# Altium integrated library Linear Technology Power Management System Supervisor, Monitor and Control.IntLib: 1611 symbols (part 77 of 100)
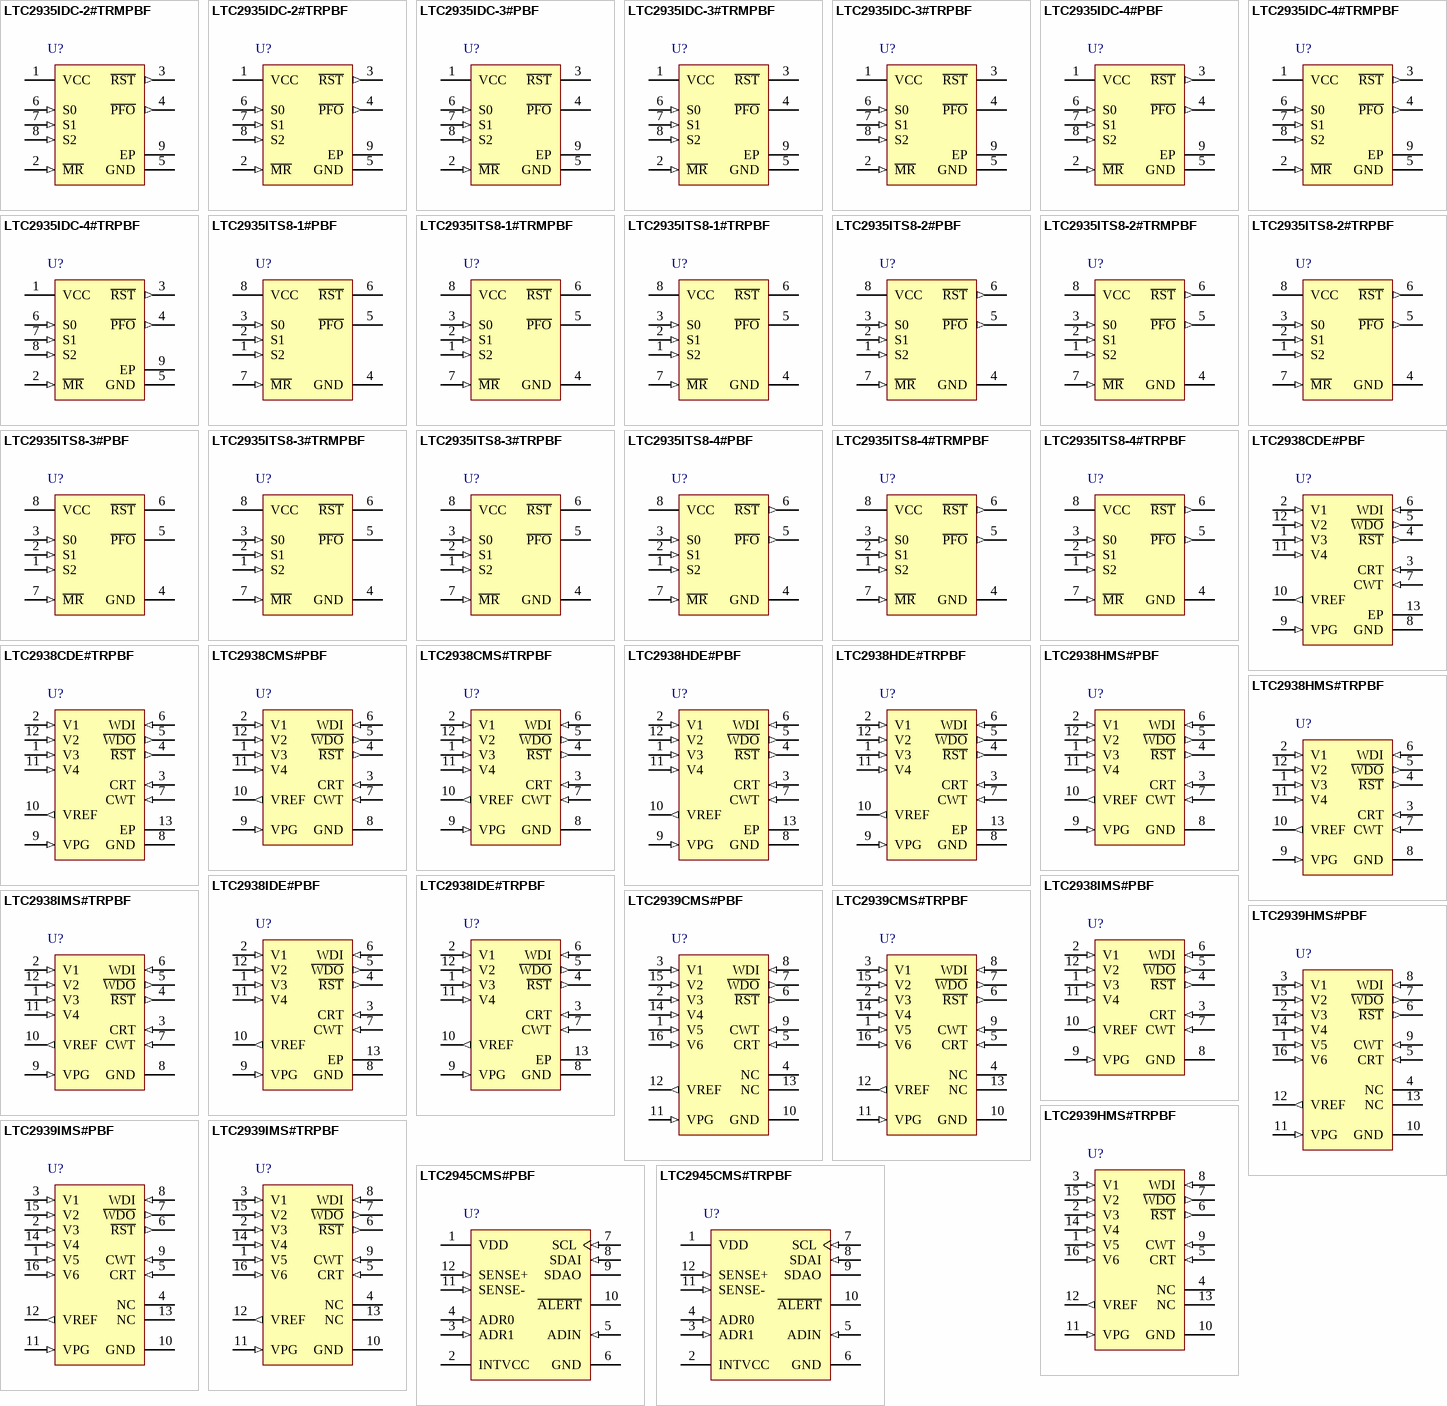
[diagram p121: symbols LTC2935IDC-2#TRMPBF to LTC2945CMS#TRPBF]

## LTC2935ITS8-1#PBF
designator U?
Ultra-Low Power Supervisor with Power-Fail Output, Selectable Threshold, 8-pin SOT23 (TS8-8), -40 to 85 degC, Pb-Free; Manufacturer: Linear Technology; PartNumber: LTC2935ITS8-1#PBF; Number of Supplies(#): 1; DatasheetVersion: Rev. A; PackageVersion: Rev. A, 08/2010; PackageReference: TS8-8; PackageDescription: 8-Pin Plastic TSOT-23, Body 2.9 x 1.63 mm, Pitch 0.65 mm; Supplier 1: Newark; Supplier Part Number 1: 78T3100; RoHS: TRUE; Mounting Technology: Surface Mount; Code_JEDEC: MO-193; ComponentLink1Description: Manufacturer URL; ComponentLink1URL: http://www.linear.com/; ComponentLink2Description: Datasheet; ComponentLink2URL: http://cds.linear.com/docs/en/datasheet/2935fa.pdf; ComponentLink3Description: Package Specification; ComponentLink3URL: http://cds.linear.com/docs/en/packaging/SOT_8_05-08-1637.pdf
footprint LT-TS8-8-TSOT-23_V (SOT23, 8-Leads, Body 2.9x1.75mm, Pitch 0.65mm)
pins: 1 S2 (in) "Threshold Selection Input. Tie to GND or VCC for required reset threshold. See the Falling Threshold Selection Table on page 1 for settings.", 2 S1 (in) "Threshold Selection Input. Tie to GND or VCC for required reset threshold. See the Falling Threshold Selection Table on page 1 for settings.", 3 S0 (in) "Threshold Selection Input. Tie to GND or VCC for required reset threshold. See the Falling Threshold Selection Table on page 1 for settings.", 4 GND (power) "Device ground.", 5 ~{PFO} (oc) "Power-Fail Output. P\F\O\ pulls low when VCC falls below the power-fail threshold. The power-fail threshold is above the configured falling reset threshold by a pre-determined margin. P\F\O\ is released when VCC rises above (See Datasheet)", 6 ~{RST} (oc) "Reset Output. R\S\T\ pulls low when VCC falls below the reset threshold. R\S\T\ is released 200ms after VCC exceeds the reset threshold plus 5% hysteresis. R\S\T\ is available with open-drain (LTC2935-1/LTC2935-3) or active (See Datasheet)", 7 ~{MR} (in) "Manual Reset Input. Attach a pushbutton switch between this input and ground. A logic low on this input pulls R\S\T\ low. When the M\R\ input returns to logic high, R\S\T\ returns high after 200ms. Tie to VCC if unused.", 8 VCC (power) "Power Supply and Monitored Voltage Input. Bypass VCC with a 0.1uF capacitor to GND."

## LTC2935ITS8-1#TRMPBF
designator U?
Ultra-Low Power Supervisor with Power-Fail Output, Selectable Threshold, 8-pin SOT23 (TS8-8), -40 to 85 degC, Pb-Free, Mini Tape and Reel; Manufacturer: Linear Technology; PartNumber: LTC2935ITS8-1#TRMPBF; Number of Supplies(#): 1; DatasheetVersion: Rev. A; PackageVersion: Rev. A, 08/2010; PackageReference: TS8-8; PackageDescription: 8-Pin Plastic TSOT-23, Body 2.9 x 1.63 mm, Pitch 0.65 mm; Supplier 1: Digi-Key; Supplier Part Number 1: LTC2935ITS8-1#TRMPBFTR-ND; Supplier 2: Digi-Key; Supplier Part Number 2: LTC2935ITS8-1#TRMPBFCT-ND; Supplier 3: Digi-Key; Supplier Part Number 3: LTC2935ITS8-1#TRMPBFDKR-ND; Supplier 4: Newark; Supplier Part Number 4: 15N3512; Packing: Mini Tape and Reel; RoHS: TRUE; Mounting Technology: Surface Mount; Code_JEDEC: MO-193; ComponentLink1Description: Manufacturer URL; ComponentLink1URL: http://www.linear.com/; ComponentLink2Description: Datasheet; ComponentLink2URL: http://cds.linear.com/docs/en/datasheet/2935fa.pdf; ComponentLink3Description: Package Specification; ComponentLink3URL: http://cds.linear.com/docs/en/packaging/SOT_8_05-08-1637.pdf
footprint LT-TS8-8-TSOT-23_V (SOT23, 8-Leads, Body 2.9x1.75mm, Pitch 0.65mm)
pins: 1 S2 (in) "Threshold Selection Input. Tie to GND or VCC for required reset threshold. See the Falling Threshold Selection Table on page 1 for settings.", 2 S1 (in) "Threshold Selection Input. Tie to GND or VCC for required reset threshold. See the Falling Threshold Selection Table on page 1 for settings.", 3 S0 (in) "Threshold Selection Input. Tie to GND or VCC for required reset threshold. See the Falling Threshold Selection Table on page 1 for settings.", 4 GND (power) "Device ground.", 5 ~{PFO} (oc) "Power-Fail Output. P\F\O\ pulls low when VCC falls below the power-fail threshold. The power-fail threshold is above the configured falling reset threshold by a pre-determined margin. P\F\O\ is released when VCC rises above (See Datasheet)", 6 ~{RST} (oc) "Reset Output. R\S\T\ pulls low when VCC falls below the reset threshold. R\S\T\ is released 200ms after VCC exceeds the reset threshold plus 5% hysteresis. R\S\T\ is available with open-drain (LTC2935-1/LTC2935-3) or active (See Datasheet)", 7 ~{MR} (in) "Manual Reset Input. Attach a pushbutton switch between this input and ground. A logic low on this input pulls R\S\T\ low. When the M\R\ input returns to logic high, R\S\T\ returns high after 200ms. Tie to VCC if unused.", 8 VCC (power) "Power Supply and Monitored Voltage Input. Bypass VCC with a 0.1uF capacitor to GND."

## LTC2935ITS8-1#TRPBF
designator U?
Ultra-Low Power Supervisor with Power-Fail Output, Selectable Threshold, 8-pin SOT23 (TS8-8), -40 to 85 degC, Pb-Free, Tape and Reel; Manufacturer: Linear Technology; PartNumber: LTC2935ITS8-1#TRPBF; Number of Supplies(#): 1; DatasheetVersion: Rev. A; PackageVersion: Rev. A, 08/2010; PackageReference: TS8-8; PackageDescription: 8-Pin Plastic TSOT-23, Body 2.9 x 1.63 mm, Pitch 0.65 mm; Supplier 1: Digi-Key; Supplier Part Number 1: LTC2935ITS8-1#TRPBF-ND; Packing: Tape and Reel; RoHS: TRUE; Mounting Technology: Surface Mount; Code_JEDEC: MO-193; ComponentLink1Description: Manufacturer URL; ComponentLink1URL: http://www.linear.com/; ComponentLink2Description: Datasheet; ComponentLink2URL: http://cds.linear.com/docs/en/datasheet/2935fa.pdf; ComponentLink3Description: Package Specification; ComponentLink3URL: http://cds.linear.com/docs/en/packaging/SOT_8_05-08-1637.pdf
footprint LT-TS8-8-TSOT-23_V (SOT23, 8-Leads, Body 2.9x1.75mm, Pitch 0.65mm)
pins: 1 S2 (in) "Threshold Selection Input. Tie to GND or VCC for required reset threshold. See the Falling Threshold Selection Table on page 1 for settings.", 2 S1 (in) "Threshold Selection Input. Tie to GND or VCC for required reset threshold. See the Falling Threshold Selection Table on page 1 for settings.", 3 S0 (in) "Threshold Selection Input. Tie to GND or VCC for required reset threshold. See the Falling Threshold Selection Table on page 1 for settings.", 4 GND (power) "Device ground.", 5 ~{PFO} (oc) "Power-Fail Output. P\F\O\ pulls low when VCC falls below the power-fail threshold. The power-fail threshold is above the configured falling reset threshold by a pre-determined margin. P\F\O\ is released when VCC rises above (See Datasheet)", 6 ~{RST} (oc) "Reset Output. R\S\T\ pulls low when VCC falls below the reset threshold. R\S\T\ is released 200ms after VCC exceeds the reset threshold plus 5% hysteresis. R\S\T\ is available with open-drain (LTC2935-1/LTC2935-3) or active (See Datasheet)", 7 ~{MR} (in) "Manual Reset Input. Attach a pushbutton switch between this input and ground. A logic low on this input pulls R\S\T\ low. When the M\R\ input returns to logic high, R\S\T\ returns high after 200ms. Tie to VCC if unused.", 8 VCC (power) "Power Supply and Monitored Voltage Input. Bypass VCC with a 0.1uF capacitor to GND."

## LTC2935ITS8-2#PBF
designator U?
Ultra-Low Power Supervisor with Power-Fail Output, Selectable Threshold, 8-pin SOT23 (TS8-8), -40 to 85 degC, Pb-Free; Manufacturer: Linear Technology; PartNumber: LTC2935ITS8-2#PBF; Number of Supplies(#): 1; DatasheetVersion: Rev. A; PackageVersion: Rev. A, 08/2010; PackageReference: TS8-8; PackageDescription: 8-Pin Plastic TSOT-23, Body 2.9 x 1.63 mm, Pitch 0.65 mm; Supplier 1: Farnell; Supplier Part Number 1: 2308123; Supplier 2: Newark; Supplier Part Number 2: 78T3101; RoHS: TRUE; Mounting Technology: Surface Mount; Code_JEDEC: MO-193; ComponentLink1Description: Manufacturer URL; ComponentLink1URL: http://www.linear.com/; ComponentLink2Description: Datasheet; ComponentLink2URL: http://cds.linear.com/docs/en/datasheet/2935fa.pdf; ComponentLink3Description: Package Specification; ComponentLink3URL: http://cds.linear.com/docs/en/packaging/SOT_8_05-08-1637.pdf
footprint LT-TS8-8-TSOT-23_V (SOT23, 8-Leads, Body 2.9x1.75mm, Pitch 0.65mm)
pins: 1 S2 (in) "Threshold Selection Input. Tie to GND or VCC for required reset threshold. See the Falling Threshold Selection Table on page 1 for settings.", 2 S1 (in) "Threshold Selection Input. Tie to GND or VCC for required reset threshold. See the Falling Threshold Selection Table on page 1 for settings.", 3 S0 (in) "Threshold Selection Input. Tie to GND or VCC for required reset threshold. See the Falling Threshold Selection Table on page 1 for settings.", 4 GND (power) "Device ground.", 5 ~{PFO} (out) "Power-Fail Output. P\F\O\ pulls low when VCC falls below the power-fail threshold. The power-fail threshold is above the configured falling reset threshold by a pre-determined margin. P\F\O\ is released when VCC rises above (See Datasheet)", 6 ~{RST} (out) "Reset Output. R\S\T\ pulls low when VCC falls below the reset threshold. R\S\T\ is released 200ms after VCC exceeds the reset threshold plus 5% hysteresis. R\S\T\ is available with open-drain (LTC2935-1/LTC2935-3) or active (See Datasheet)", 7 ~{MR} (in) "Manual Reset Input. Attach a pushbutton switch between this input and ground. A logic low on this input pulls R\S\T\ low. When the M\R\ input returns to logic high, R\S\T\ returns high after 200ms. Tie to VCC if unused.", 8 VCC (power) "Power Supply and Monitored Voltage Input. Bypass VCC with a 0.1uF capacitor to GND."

## LTC2935ITS8-2#TRMPBF
designator U?
Ultra-Low Power Supervisor with Power-Fail Output, Selectable Threshold, 8-pin SOT23 (TS8-8), -40 to 85 degC, Pb-Free, Mini Tape and Reel; Manufacturer: Linear Technology; PartNumber: LTC2935ITS8-2#TRMPBF; Number of Supplies(#): 1; DatasheetVersion: Rev. A; PackageVersion: Rev. A, 08/2010; PackageReference: TS8-8; PackageDescription: 8-Pin Plastic TSOT-23, Body 2.9 x 1.63 mm, Pitch 0.65 mm; Supplier 1: Digi-Key; Supplier Part Number 1: LTC2935ITS8-2#TRMPBFTR-ND; Supplier 2: Digi-Key; Supplier Part Number 2: LTC2935ITS8-2#TRMPBFCT-ND; Supplier 3: Digi-Key; Supplier Part Number 3: LTC2935ITS8-2#TRMPBFDKR-ND; Supplier 4: Newark; Supplier Part Number 4: 15N3514; Packing: Mini Tape and Reel; RoHS: TRUE; Mounting Technology: Surface Mount; Code_JEDEC: MO-193; ComponentLink1Description: Manufacturer URL; ComponentLink1URL: http://www.linear.com/; ComponentLink2Description: Datasheet; ComponentLink2URL: http://cds.linear.com/docs/en/datasheet/2935fa.pdf; ComponentLink3Description: Package Specification; ComponentLink3URL: http://cds.linear.com/docs/en/packaging/SOT_8_05-08-1637.pdf
footprint LT-TS8-8-TSOT-23_V (SOT23, 8-Leads, Body 2.9x1.75mm, Pitch 0.65mm)
pins: 1 S2 (in) "Threshold Selection Input. Tie to GND or VCC for required reset threshold. See the Falling Threshold Selection Table on page 1 for settings.", 2 S1 (in) "Threshold Selection Input. Tie to GND or VCC for required reset threshold. See the Falling Threshold Selection Table on page 1 for settings.", 3 S0 (in) "Threshold Selection Input. Tie to GND or VCC for required reset threshold. See the Falling Threshold Selection Table on page 1 for settings.", 4 GND (power) "Device ground.", 5 ~{PFO} (out) "Power-Fail Output. P\F\O\ pulls low when VCC falls below the power-fail threshold. The power-fail threshold is above the configured falling reset threshold by a pre-determined margin. P\F\O\ is released when VCC rises above (See Datasheet)", 6 ~{RST} (out) "Reset Output. R\S\T\ pulls low when VCC falls below the reset threshold. R\S\T\ is released 200ms after VCC exceeds the reset threshold plus 5% hysteresis. R\S\T\ is available with open-drain (LTC2935-1/LTC2935-3) or active (See Datasheet)", 7 ~{MR} (in) "Manual Reset Input. Attach a pushbutton switch between this input and ground. A logic low on this input pulls R\S\T\ low. When the M\R\ input returns to logic high, R\S\T\ returns high after 200ms. Tie to VCC if unused.", 8 VCC (power) "Power Supply and Monitored Voltage Input. Bypass VCC with a 0.1uF capacitor to GND."

## LTC2935ITS8-2#TRPBF
designator U?
Ultra-Low Power Supervisor with Power-Fail Output, Selectable Threshold, 8-pin SOT23 (TS8-8), -40 to 85 degC, Pb-Free, Tape and Reel; Manufacturer: Linear Technology; PartNumber: LTC2935ITS8-2#TRPBF; Number of Supplies(#): 1; DatasheetVersion: Rev. A; PackageVersion: Rev. A, 08/2010; PackageReference: TS8-8; PackageDescription: 8-Pin Plastic TSOT-23, Body 2.9 x 1.63 mm, Pitch 0.65 mm; Supplier 1: Digi-Key; Supplier Part Number 1: LTC2935ITS8-2#TRPBF-ND; Packing: Tape and Reel; RoHS: TRUE; Mounting Technology: Surface Mount; Code_JEDEC: MO-193; ComponentLink1Description: Manufacturer URL; ComponentLink1URL: http://www.linear.com/; ComponentLink2Description: Datasheet; ComponentLink2URL: http://cds.linear.com/docs/en/datasheet/2935fa.pdf; ComponentLink3Description: Package Specification; ComponentLink3URL: http://cds.linear.com/docs/en/packaging/SOT_8_05-08-1637.pdf
footprint LT-TS8-8-TSOT-23_V (SOT23, 8-Leads, Body 2.9x1.75mm, Pitch 0.65mm)
pins: 1 S2 (in) "Threshold Selection Input. Tie to GND or VCC for required reset threshold. See the Falling Threshold Selection Table on page 1 for settings.", 2 S1 (in) "Threshold Selection Input. Tie to GND or VCC for required reset threshold. See the Falling Threshold Selection Table on page 1 for settings.", 3 S0 (in) "Threshold Selection Input. Tie to GND or VCC for required reset threshold. See the Falling Threshold Selection Table on page 1 for settings.", 4 GND (power) "Device ground.", 5 ~{PFO} (out) "Power-Fail Output. P\F\O\ pulls low when VCC falls below the power-fail threshold. The power-fail threshold is above the configured falling reset threshold by a pre-determined margin. P\F\O\ is released when VCC rises above (See Datasheet)", 6 ~{RST} (out) "Reset Output. R\S\T\ pulls low when VCC falls below the reset threshold. R\S\T\ is released 200ms after VCC exceeds the reset threshold plus 5% hysteresis. R\S\T\ is available with open-drain (LTC2935-1/LTC2935-3) or active (See Datasheet)", 7 ~{MR} (in) "Manual Reset Input. Attach a pushbutton switch between this input and ground. A logic low on this input pulls R\S\T\ low. When the M\R\ input returns to logic high, R\S\T\ returns high after 200ms. Tie to VCC if unused.", 8 VCC (power) "Power Supply and Monitored Voltage Input. Bypass VCC with a 0.1uF capacitor to GND."

## LTC2935ITS8-3#PBF
designator U?
Ultra-Low Power Supervisor with Power-Fail Output, Selectable Threshold, 8-pin SOT23 (TS8-8), -40 to 85 degC, Pb-Free; Manufacturer: Linear Technology; PartNumber: LTC2935ITS8-3#PBF; Number of Supplies(#): 1; DatasheetVersion: Rev. A; PackageVersion: Rev. A, 08/2010; PackageReference: TS8-8; PackageDescription: 8-Pin Plastic TSOT-23, Body 2.9 x 1.63 mm, Pitch 0.65 mm; Supplier 1: Newark; Supplier Part Number 1: 24R8515; RoHS: TRUE; Mounting Technology: Surface Mount; Code_JEDEC: MO-193; ComponentLink1Description: Manufacturer URL; ComponentLink1URL: http://www.linear.com/; ComponentLink2Description: Datasheet; ComponentLink2URL: http://cds.linear.com/docs/en/datasheet/2935fa.pdf; ComponentLink3Description: Package Specification; ComponentLink3URL: http://cds.linear.com/docs/en/packaging/SOT_8_05-08-1637.pdf
footprint LT-TS8-8-TSOT-23_V (SOT23, 8-Leads, Body 2.9x1.75mm, Pitch 0.65mm)
pins: 1 S2 (in) "Threshold Selection Input. Tie to GND or VCC for required reset threshold. See the Falling Threshold Selection Table on page 1 for settings.", 2 S1 (in) "Threshold Selection Input. Tie to GND or VCC for required reset threshold. See the Falling Threshold Selection Table on page 1 for settings.", 3 S0 (in) "Threshold Selection Input. Tie to GND or VCC for required reset threshold. See the Falling Threshold Selection Table on page 1 for settings.", 4 GND (power) "Device ground.", 5 ~{PFO} (oc) "Power-Fail Output. P\F\O\ pulls low when VCC falls below the power-fail threshold. The power-fail threshold is above the configured falling reset threshold by a pre-determined margin. P\F\O\ is released when VCC rises above (See Datasheet)", 6 ~{RST} (oc) "Reset Output. R\S\T\ pulls low when VCC falls below the reset threshold. R\S\T\ is released 200ms after VCC exceeds the reset threshold plus 5% hysteresis. R\S\T\ is available with open-drain (LTC2935-1/LTC2935-3) or active (See Datasheet)", 7 ~{MR} (in) "Manual Reset Input. Attach a pushbutton switch between this input and ground. A logic low on this input pulls R\S\T\ low. When the M\R\ input returns to logic high, R\S\T\ returns high after 200ms. Tie to VCC if unused.", 8 VCC (power) "Power Supply and Monitored Voltage Input. Bypass VCC with a 0.1uF capacitor to GND."

## LTC2935ITS8-3#TRMPBF
designator U?
Ultra-Low Power Supervisor with Power-Fail Output, Selectable Threshold, 8-pin SOT23 (TS8-8), -40 to 85 degC, Pb-Free, Mini Tape and Reel; Manufacturer: Linear Technology; PartNumber: LTC2935ITS8-3#TRMPBF; Number of Supplies(#): 1; DatasheetVersion: Rev. A; PackageVersion: Rev. A, 08/2010; PackageReference: TS8-8; PackageDescription: 8-Pin Plastic TSOT-23, Body 2.9 x 1.63 mm, Pitch 0.65 mm; Supplier 1: Digi-Key; Supplier Part Number 1: LTC2935ITS8-3#TRMPBFTR-ND; Supplier 2: Digi-Key; Supplier Part Number 2: LTC2935ITS8-3#TRMPBFCT-ND; Supplier 3: Digi-Key; Supplier Part Number 3: LTC2935ITS8-3#TRMPBFDKR-ND; Packing: Mini Tape and Reel; RoHS: TRUE; Mounting Technology: Surface Mount; Code_JEDEC: MO-193; ComponentLink1Description: Manufacturer URL; ComponentLink1URL: http://www.linear.com/; ComponentLink2Description: Datasheet; ComponentLink2URL: http://cds.linear.com/docs/en/datasheet/2935fa.pdf; ComponentLink3Description: Package Specification; ComponentLink3URL: http://cds.linear.com/docs/en/packaging/SOT_8_05-08-1637.pdf
footprint LT-TS8-8-TSOT-23_V (SOT23, 8-Leads, Body 2.9x1.75mm, Pitch 0.65mm)
pins: 1 S2 (in) "Threshold Selection Input. Tie to GND or VCC for required reset threshold. See the Falling Threshold Selection Table on page 1 for settings.", 2 S1 (in) "Threshold Selection Input. Tie to GND or VCC for required reset threshold. See the Falling Threshold Selection Table on page 1 for settings.", 3 S0 (in) "Threshold Selection Input. Tie to GND or VCC for required reset threshold. See the Falling Threshold Selection Table on page 1 for settings.", 4 GND (power) "Device ground.", 5 ~{PFO} (oc) "Power-Fail Output. P\F\O\ pulls low when VCC falls below the power-fail threshold. The power-fail threshold is above the configured falling reset threshold by a pre-determined margin. P\F\O\ is released when VCC rises above (See Datasheet)", 6 ~{RST} (oc) "Reset Output. R\S\T\ pulls low when VCC falls below the reset threshold. R\S\T\ is released 200ms after VCC exceeds the reset threshold plus 5% hysteresis. R\S\T\ is available with open-drain (LTC2935-1/LTC2935-3) or active (See Datasheet)", 7 ~{MR} (in) "Manual Reset Input. Attach a pushbutton switch between this input and ground. A logic low on this input pulls R\S\T\ low. When the M\R\ input returns to logic high, R\S\T\ returns high after 200ms. Tie to VCC if unused.", 8 VCC (power) "Power Supply and Monitored Voltage Input. Bypass VCC with a 0.1uF capacitor to GND."

## LTC2935ITS8-3#TRPBF
designator U?
Ultra-Low Power Supervisor with Power-Fail Output, Selectable Threshold, 8-pin SOT23 (TS8-8), -40 to 85 degC, Pb-Free, Tape and Reel; Manufacturer: Linear Technology; PartNumber: LTC2935ITS8-3#TRPBF; Number of Supplies(#): 1; DatasheetVersion: Rev. A; PackageVersion: Rev. A, 08/2010; PackageReference: TS8-8; PackageDescription: 8-Pin Plastic TSOT-23, Body 2.9 x 1.63 mm, Pitch 0.65 mm; Supplier 1: Digi-Key; Supplier Part Number 1: LTC2935ITS8-3#TRPBF-ND; Packing: Tape and Reel; RoHS: TRUE; Mounting Technology: Surface Mount; Code_JEDEC: MO-193; ComponentLink1Description: Manufacturer URL; ComponentLink1URL: http://www.linear.com/; ComponentLink2Description: Datasheet; ComponentLink2URL: http://cds.linear.com/docs/en/datasheet/2935fa.pdf; ComponentLink3Description: Package Specification; ComponentLink3URL: http://cds.linear.com/docs/en/packaging/SOT_8_05-08-1637.pdf
footprint LT-TS8-8-TSOT-23_V (SOT23, 8-Leads, Body 2.9x1.75mm, Pitch 0.65mm)
pins: 1 S2 (in) "Threshold Selection Input. Tie to GND or VCC for required reset threshold. See the Falling Threshold Selection Table on page 1 for settings.", 2 S1 (in) "Threshold Selection Input. Tie to GND or VCC for required reset threshold. See the Falling Threshold Selection Table on page 1 for settings.", 3 S0 (in) "Threshold Selection Input. Tie to GND or VCC for required reset threshold. See the Falling Threshold Selection Table on page 1 for settings.", 4 GND (power) "Device ground.", 5 ~{PFO} (oc) "Power-Fail Output. P\F\O\ pulls low when VCC falls below the power-fail threshold. The power-fail threshold is above the configured falling reset threshold by a pre-determined margin. P\F\O\ is released when VCC rises above (See Datasheet)", 6 ~{RST} (oc) "Reset Output. R\S\T\ pulls low when VCC falls below the reset threshold. R\S\T\ is released 200ms after VCC exceeds the reset threshold plus 5% hysteresis. R\S\T\ is available with open-drain (LTC2935-1/LTC2935-3) or active (See Datasheet)", 7 ~{MR} (in) "Manual Reset Input. Attach a pushbutton switch between this input and ground. A logic low on this input pulls R\S\T\ low. When the M\R\ input returns to logic high, R\S\T\ returns high after 200ms. Tie to VCC if unused.", 8 VCC (power) "Power Supply and Monitored Voltage Input. Bypass VCC with a 0.1uF capacitor to GND."

## LTC2935ITS8-4#PBF
designator U?
Ultra-Low Power Supervisor with Power-Fail Output, Selectable Threshold, 8-pin SOT23 (TS8-8), -40 to 85 degC, Pb-Free; Manufacturer: Linear Technology; PartNumber: LTC2935ITS8-4#PBF; Number of Supplies(#): 1; DatasheetVersion: Rev. A; PackageVersion: Rev. A, 08/2010; PackageReference: TS8-8; PackageDescription: 8-Pin Plastic TSOT-23, Body 2.9 x 1.63 mm, Pitch 0.65 mm; Supplier 1: Newark; Supplier Part Number 1: 24R8516; RoHS: TRUE; Mounting Technology: Surface Mount; Code_JEDEC: MO-193; ComponentLink1Description: Manufacturer URL; ComponentLink1URL: http://www.linear.com/; ComponentLink2Description: Datasheet; ComponentLink2URL: http://cds.linear.com/docs/en/datasheet/2935fa.pdf; ComponentLink3Description: Package Specification; ComponentLink3URL: http://cds.linear.com/docs/en/packaging/SOT_8_05-08-1637.pdf
footprint LT-TS8-8-TSOT-23_V (SOT23, 8-Leads, Body 2.9x1.75mm, Pitch 0.65mm)
pins: 1 S2 (in) "Threshold Selection Input. Tie to GND or VCC for required reset threshold. See the Falling Threshold Selection Table on page 1 for settings.", 2 S1 (in) "Threshold Selection Input. Tie to GND or VCC for required reset threshold. See the Falling Threshold Selection Table on page 1 for settings.", 3 S0 (in) "Threshold Selection Input. Tie to GND or VCC for required reset threshold. See the Falling Threshold Selection Table on page 1 for settings.", 4 GND (power) "Device ground.", 5 ~{PFO} (out) "Power-Fail Output. P\F\O\ pulls low when VCC falls below the power-fail threshold. The power-fail threshold is above the configured falling reset threshold by a pre-determined margin. P\F\O\ is released when VCC rises above (See Datasheet)", 6 ~{RST} (out) "Reset Output. R\S\T\ pulls low when VCC falls below the reset threshold. R\S\T\ is released 200ms after VCC exceeds the reset threshold plus 5% hysteresis. R\S\T\ is available with open-drain (LTC2935-1/LTC2935-3) or active (See Datasheet)", 7 ~{MR} (in) "Manual Reset Input. Attach a pushbutton switch between this input and ground. A logic low on this input pulls R\S\T\ low. When the M\R\ input returns to logic high, R\S\T\ returns high after 200ms. Tie to VCC if unused.", 8 VCC (power) "Power Supply and Monitored Voltage Input. Bypass VCC with a 0.1uF capacitor to GND."

## LTC2935ITS8-4#TRMPBF
designator U?
Ultra-Low Power Supervisor with Power-Fail Output, Selectable Threshold, 8-pin SOT23 (TS8-8), -40 to 85 degC, Pb-Free, Mini Tape and Reel; Manufacturer: Linear Technology; PartNumber: LTC2935ITS8-4#TRMPBF; Number of Supplies(#): 1; DatasheetVersion: Rev. A; PackageVersion: Rev. A, 08/2010; PackageReference: TS8-8; PackageDescription: 8-Pin Plastic TSOT-23, Body 2.9 x 1.63 mm, Pitch 0.65 mm; Supplier 1: Digi-Key; Supplier Part Number 1: LTC2935ITS8-4#TRMPBFTR-ND; Supplier 2: Digi-Key; Supplier Part Number 2: LTC2935ITS8-4#TRMPBFCT-ND; Supplier 3: Digi-Key; Supplier Part Number 3: LTC2935ITS8-4#TRMPBFDKR-ND; Packing: Mini Tape and Reel; RoHS: TRUE; Mounting Technology: Surface Mount; Code_JEDEC: MO-193; ComponentLink1Description: Manufacturer URL; ComponentLink1URL: http://www.linear.com/; ComponentLink2Description: Datasheet; ComponentLink2URL: http://cds.linear.com/docs/en/datasheet/2935fa.pdf; ComponentLink3Description: Package Specification; ComponentLink3URL: http://cds.linear.com/docs/en/packaging/SOT_8_05-08-1637.pdf
footprint LT-TS8-8-TSOT-23_V (SOT23, 8-Leads, Body 2.9x1.75mm, Pitch 0.65mm)
pins: 1 S2 (in) "Threshold Selection Input. Tie to GND or VCC for required reset threshold. See the Falling Threshold Selection Table on page 1 for settings.", 2 S1 (in) "Threshold Selection Input. Tie to GND or VCC for required reset threshold. See the Falling Threshold Selection Table on page 1 for settings.", 3 S0 (in) "Threshold Selection Input. Tie to GND or VCC for required reset threshold. See the Falling Threshold Selection Table on page 1 for settings.", 4 GND (power) "Device ground.", 5 ~{PFO} (out) "Power-Fail Output. P\F\O\ pulls low when VCC falls below the power-fail threshold. The power-fail threshold is above the configured falling reset threshold by a pre-determined margin. P\F\O\ is released when VCC rises above (See Datasheet)", 6 ~{RST} (out) "Reset Output. R\S\T\ pulls low when VCC falls below the reset threshold. R\S\T\ is released 200ms after VCC exceeds the reset threshold plus 5% hysteresis. R\S\T\ is available with open-drain (LTC2935-1/LTC2935-3) or active (See Datasheet)", 7 ~{MR} (in) "Manual Reset Input. Attach a pushbutton switch between this input and ground. A logic low on this input pulls R\S\T\ low. When the M\R\ input returns to logic high, R\S\T\ returns high after 200ms. Tie to VCC if unused.", 8 VCC (power) "Power Supply and Monitored Voltage Input. Bypass VCC with a 0.1uF capacitor to GND."

## LTC2935ITS8-4#TRPBF
designator U?
Ultra-Low Power Supervisor with Power-Fail Output, Selectable Threshold, 8-pin SOT23 (TS8-8), -40 to 85 degC, Pb-Free, Tape and Reel; Manufacturer: Linear Technology; PartNumber: LTC2935ITS8-4#TRPBF; Number of Supplies(#): 1; DatasheetVersion: Rev. A; PackageVersion: Rev. A, 08/2010; PackageReference: TS8-8; PackageDescription: 8-Pin Plastic TSOT-23, Body 2.9 x 1.63 mm, Pitch 0.65 mm; Supplier 1: Digi-Key; Supplier Part Number 1: LTC2935ITS8-4#TRPBF-ND; Packing: Tape and Reel; RoHS: TRUE; Mounting Technology: Surface Mount; Code_JEDEC: MO-193; ComponentLink1Description: Manufacturer URL; ComponentLink1URL: http://www.linear.com/; ComponentLink2Description: Datasheet; ComponentLink2URL: http://cds.linear.com/docs/en/datasheet/2935fa.pdf; ComponentLink3Description: Package Specification; ComponentLink3URL: http://cds.linear.com/docs/en/packaging/SOT_8_05-08-1637.pdf
footprint LT-TS8-8-TSOT-23_V (SOT23, 8-Leads, Body 2.9x1.75mm, Pitch 0.65mm)
pins: 1 S2 (in) "Threshold Selection Input. Tie to GND or VCC for required reset threshold. See the Falling Threshold Selection Table on page 1 for settings.", 2 S1 (in) "Threshold Selection Input. Tie to GND or VCC for required reset threshold. See the Falling Threshold Selection Table on page 1 for settings.", 3 S0 (in) "Threshold Selection Input. Tie to GND or VCC for required reset threshold. See the Falling Threshold Selection Table on page 1 for settings.", 4 GND (power) "Device ground.", 5 ~{PFO} (out) "Power-Fail Output. P\F\O\ pulls low when VCC falls below the power-fail threshold. The power-fail threshold is above the configured falling reset threshold by a pre-determined margin. P\F\O\ is released when VCC rises above (See Datasheet)", 6 ~{RST} (out) "Reset Output. R\S\T\ pulls low when VCC falls below the reset threshold. R\S\T\ is released 200ms after VCC exceeds the reset threshold plus 5% hysteresis. R\S\T\ is available with open-drain (LTC2935-1/LTC2935-3) or active (See Datasheet)", 7 ~{MR} (in) "Manual Reset Input. Attach a pushbutton switch between this input and ground. A logic low on this input pulls R\S\T\ low. When the M\R\ input returns to logic high, R\S\T\ returns high after 200ms. Tie to VCC if unused.", 8 VCC (power) "Power Supply and Monitored Voltage Input. Bypass VCC with a 0.1uF capacitor to GND."

## LTC2938CDE#PBF
designator U?
Configurable 4-Supply Monitor with Watchdog Timer, 12-pin SON (DE-UE-12), 0 to 70 degC, Pb-Free; Manufacturer: Linear Technology; PartNumber: LTC2938CDE#PBF; Number of Supplies(#): 4; PackageVersion: Rev. D, 06/2010; PackageReference: DE-UE-12; PackageDescription: 12-Pin Plastic DFN, Body 4 x 3 mm, Pitch 0.5 mm; Supplier 1: Digi-Key; Supplier Part Number 1: LTC2938CDE#PBF-ND; RoHS: TRUE; Mounting Technology: Surface Mount; Code_JEDEC: MO-229; ComponentLink1Description: Manufacturer URL; ComponentLink1URL: http://www.linear.com/; ComponentLink2Description: Datasheet; ComponentLink2URL: http://cds.linear.com/docs/en/datasheet/293839f.pdf; ComponentLink3Description: Package Specification; ComponentLink3URL: http://cds.linear.com/docs/en/packaging/DFN_12_05-08-1695.pdf
footprint LT-DE-UE-12_V (SON, 12-Leads, Body 4x3mm, Pitch 0.5mm, Thermal Pad 3.3x1.7mm)
pins: 1 V3 (in) "Voltage Input 3. Select from 2.5V, 1.8V, 1.5V, 1.2V or ADJ. See the Applications Information section for details. Tie to V1 if unused.", 2 V1 (in) "Voltage Input 1. Select from 5V or 3.3V. See the Applications Information section for details. The greater of V1 or V2 is also VCC for the device. Bypass this input to ground with a 0.1uF (or greater) capacitor.", 3 CRT (in) "Reset Timeout Capacitor. Attach an external capacitor (CRT) to GND to set a reset timeout of 2ms/nF. A 47nF capacitor generates a 94ms reset delay time. Leaving CRT unconnected generates a minimum timeout period of (See Datasheet)", 4 ~{RST} (out) "Reset Output. Logic output with weak 6uA pull-up to V2. Pulls low when any voltage input is below the reset threshold and held low for the confi gured reset delay time after all voltage inputs are above threshold. When the (See Datasheet)", 5 ~{WDO} (out) "Watchdog Output. Logic output with weak 6uA pullup to V2. May be pulled greater than V2 using external pull-up. For V2 confi gured to monitor 2.5V or below, connect an external pull-up resistor to the interface logic supply (See Datasheet)", 6 WDI (in) "Watchdog Input: A three-state input that controls the operation of the watchdog timer. Leaving the WDI pin unconnected disables the watchdog timer while tying it low or high enables it. While R\S\T\ is high, a transition (See Datasheet)", 7 CWT (in) "Watchdog Timeout Capacitor. Attach a capacitor (CWT) between CWT and GND to set a watchdog timeout period of 20ms/nF. A 47nF capacitor generates a 940ms watchdog timeout period. Leaving CWT unconnected generates a minimum (See Datasheet)", 8 GND (power) "Device Ground.", 9 VPG (in) "Threshold Select Input. Connect to an external 1% resistive divider between VREF and GND to select one of sixteen combinations of voltage thresholds (see Table 1). Do not add capacitance to the VPG input.", 10 VREF (out) "Buffered Reference Voltage Output. A 1.210V nominal reference used for the mode selection voltage (VPG) and for the offset of negative adjustable applications. The buffered reference can source and sink up to 1mA. The (See Datasheet)", 11 V4 (in) "Voltage Input 4. Select from 1.8V, 1.5V, 1.2V, ADJ or -ADJ. See the Applications Information section for details. Tie to V1 if unused and confi gured for positive voltage.", 12 V2 (in) "Voltage Input 2. Select from 3.3V, 2.5V, 1.8V, 1.5V or 1.2V. See the Applications Information section for details. The greater of V1, V2 is also VCC for the device. Bypass this input to ground with a 0.1uF (or greater) (See Datasheet)", 13 EP (power) "The Exposed Pad may be left open or connected to device ground."

## LTC2938CDE#TRPBF
designator U?
Configurable 4-Supply Monitor with Watchdog Timer, 12-pin SON (DE-UE-12), 0 to 70 degC, Pb-Free, Tape and Reel; Manufacturer: Linear Technology; PartNumber: LTC2938CDE#TRPBF; Number of Supplies(#): 4; PackageVersion: Rev. D, 06/2010; PackageReference: DE-UE-12; PackageDescription: 12-Pin Plastic DFN, Body 4 x 3 mm, Pitch 0.5 mm; Supplier 1: Digi-Key; Supplier Part Number 1: LTC2938CDE#TRPBF-ND; Packing: Tape and Reel; RoHS: TRUE; Mounting Technology: Surface Mount; Code_JEDEC: MO-229; ComponentLink1Description: Manufacturer URL; ComponentLink1URL: http://www.linear.com/; ComponentLink2Description: Datasheet; ComponentLink2URL: http://cds.linear.com/docs/en/datasheet/293839f.pdf; ComponentLink3Description: Package Specification; ComponentLink3URL: http://cds.linear.com/docs/en/packaging/DFN_12_05-08-1695.pdf
footprint LT-DE-UE-12_V (SON, 12-Leads, Body 4x3mm, Pitch 0.5mm, Thermal Pad 3.3x1.7mm)
pins: 1 V3 (in) "Voltage Input 3. Select from 2.5V, 1.8V, 1.5V, 1.2V or ADJ. See the Applications Information section for details. Tie to V1 if unused.", 2 V1 (in) "Voltage Input 1. Select from 5V or 3.3V. See the Applications Information section for details. The greater of V1 or V2 is also VCC for the device. Bypass this input to ground with a 0.1uF (or greater) capacitor.", 3 CRT (in) "Reset Timeout Capacitor. Attach an external capacitor (CRT) to GND to set a reset timeout of 2ms/nF. A 47nF capacitor generates a 94ms reset delay time. Leaving CRT unconnected generates a minimum timeout period of (See Datasheet)", 4 ~{RST} (out) "Reset Output. Logic output with weak 6uA pull-up to V2. Pulls low when any voltage input is below the reset threshold and held low for the confi gured reset delay time after all voltage inputs are above threshold. When the (See Datasheet)", 5 ~{WDO} (out) "Watchdog Output. Logic output with weak 6uA pullup to V2. May be pulled greater than V2 using external pull-up. For V2 confi gured to monitor 2.5V or below, connect an external pull-up resistor to the interface logic supply (See Datasheet)", 6 WDI (in) "Watchdog Input: A three-state input that controls the operation of the watchdog timer. Leaving the WDI pin unconnected disables the watchdog timer while tying it low or high enables it. While R\S\T\ is high, a transition (See Datasheet)", 7 CWT (in) "Watchdog Timeout Capacitor. Attach a capacitor (CWT) between CWT and GND to set a watchdog timeout period of 20ms/nF. A 47nF capacitor generates a 940ms watchdog timeout period. Leaving CWT unconnected generates a minimum (See Datasheet)", 8 GND (power) "Device Ground.", 9 VPG (in) "Threshold Select Input. Connect to an external 1% resistive divider between VREF and GND to select one of sixteen combinations of voltage thresholds (see Table 1). Do not add capacitance to the VPG input.", 10 VREF (out) "Buffered Reference Voltage Output. A 1.210V nominal reference used for the mode selection voltage (VPG) and for the offset of negative adjustable applications. The buffered reference can source and sink up to 1mA. The (See Datasheet)", 11 V4 (in) "Voltage Input 4. Select from 1.8V, 1.5V, 1.2V, ADJ or -ADJ. See the Applications Information section for details. Tie to V1 if unused and confi gured for positive voltage.", 12 V2 (in) "Voltage Input 2. Select from 3.3V, 2.5V, 1.8V, 1.5V or 1.2V. See the Applications Information section for details. The greater of V1, V2 is also VCC for the device. Bypass this input to ground with a 0.1uF (or greater) (See Datasheet)", 13 EP (power) "The Exposed Pad may be left open or connected to device ground."

## LTC2938CMS#PBF
designator U?
Configurable 4-Supply Monitor with Watchdog Timer, 12-pin SOP (MS-12), 0 to 70 degC, Pb-Free; Manufacturer: Linear Technology; PartNumber: LTC2938CMS#PBF; Number of Supplies(#): 4; PackageVersion: Rev. A, 05/2013; PackageReference: MS-12; PackageDescription: 12-Pin Plastic MSOP, Body 4.039 x 3 mm, Pitch 0.65 mm; Supplier 1: Digi-Key; Supplier Part Number 1: LTC2938CMS#PBF-ND; Supplier 2: Newark; Supplier Part Number 2: 28R7632; RoHS: TRUE; Mounting Technology: Surface Mount; ComponentLink1Description: Manufacturer URL; ComponentLink1URL: http://www.linear.com/; ComponentLink2Description: Datasheet; ComponentLink2URL: http://cds.linear.com/docs/en/datasheet/293839f.pdf; ComponentLink3Description: Package Specification; ComponentLink3URL: http://cds.linear.com/docs/en/packaging/05081668_A_MS12.pdf
footprint LT-MS-12_N (SOP, 12-Leads, Body 4.1x3.1mm, Pitch 0.65mm, IPC Medium Density)
footprint LT-MS-12_L (SOP, 12-Leads, Body 4.1x3.1mm, Pitch 0.65mm, IPC High Density)
footprint LT-MS-12_M (SOP, 12-Leads, Body 4.1x3.1mm, Pitch 0.65mm, IPC Low Density)
pins: 1 V3 (in) "Voltage Input 3. Select from 2.5V, 1.8V, 1.5V, 1.2V or ADJ. See the Applications Information section for details. Tie to V1 if unused.", 2 V1 (in) "Voltage Input 1. Select from 5V or 3.3V. See the Applications Information section for details. The greater of V1 or V2 is also VCC for the device. Bypass this input to ground with a 0.1uF (or greater) capacitor.", 3 CRT (in) "Reset Timeout Capacitor. Attach an external capacitor (CRT) to GND to set a reset timeout of 2ms/nF. A 47nF capacitor generates a 94ms reset delay time. Leaving CRT unconnected generates a minimum timeout period of (See Datasheet)", 4 ~{RST} (out) "Reset Output. Logic output with weak 6uA pull-up to V2. Pulls low when any voltage input is below the reset threshold and held low for the confi gured reset delay time after all voltage inputs are above threshold. When the (See Datasheet)", 5 ~{WDO} (out) "Watchdog Output. Logic output with weak 6uA pullup to V2. May be pulled greater than V2 using external pull-up. For V2 confi gured to monitor 2.5V or below, connect an external pull-up resistor to the interface logic supply (See Datasheet)", 6 WDI (in) "Watchdog Input: A three-state input that controls the operation of the watchdog timer. Leaving the WDI pin unconnected disables the watchdog timer while tying it low or high enables it. While R\S\T\ is high, a transition (See Datasheet)", 7 CWT (in) "Watchdog Timeout Capacitor. Attach a capacitor (CWT) between CWT and GND to set a watchdog timeout period of 20ms/nF. A 47nF capacitor generates a 940ms watchdog timeout period. Leaving CWT unconnected generates a minimum (See Datasheet)", 8 GND (power) "Device Ground.", 9 VPG (in) "Threshold Select Input. Connect to an external 1% resistive divider between VREF and GND to select one of sixteen combinations of voltage thresholds (see Table 1). Do not add capacitance to the VPG input.", 10 VREF (out) "Buffered Reference Voltage Output. A 1.210V nominal reference used for the mode selection voltage (VPG) and for the offset of negative adjustable applications. The buffered reference can source and sink up to 1mA. The (See Datasheet)", 11 V4 (in) "Voltage Input 4. Select from 1.8V, 1.5V, 1.2V, ADJ or -ADJ. See the Applications Information section for details. Tie to V1 if unused and confi gured for positive voltage.", 12 V2 (in) "Voltage Input 2. Select from 3.3V, 2.5V, 1.8V, 1.5V or 1.2V. See the Applications Information section for details. The greater of V1, V2 is also VCC for the device. Bypass this input to ground with a 0.1uF (or greater) (See Datasheet)"

## LTC2938CMS#TRPBF
designator U?
Configurable 4-Supply Monitor with Watchdog Timer, 12-pin SOP (MS-12), 0 to 70 degC, Pb-Free, Tape and Reel; Manufacturer: Linear Technology; PartNumber: LTC2938CMS#TRPBF; Number of Supplies(#): 4; PackageVersion: Rev. A, 05/2013; PackageReference: MS-12; PackageDescription: 12-Pin Plastic MSOP, Body 4.039 x 3 mm, Pitch 0.65 mm; Supplier 1: Digi-Key; Supplier Part Number 1: LTC2938CMS#TRPBF-ND; Packing: Tape and Reel; RoHS: TRUE; Mounting Technology: Surface Mount; ComponentLink1Description: Manufacturer URL; ComponentLink1URL: http://www.linear.com/; ComponentLink2Description: Datasheet; ComponentLink2URL: http://cds.linear.com/docs/en/datasheet/293839f.pdf; ComponentLink3Description: Package Specification; ComponentLink3URL: http://cds.linear.com/docs/en/packaging/05081668_A_MS12.pdf
footprint LT-MS-12_N (SOP, 12-Leads, Body 4.1x3.1mm, Pitch 0.65mm, IPC Medium Density)
footprint LT-MS-12_L (SOP, 12-Leads, Body 4.1x3.1mm, Pitch 0.65mm, IPC High Density)
footprint LT-MS-12_M (SOP, 12-Leads, Body 4.1x3.1mm, Pitch 0.65mm, IPC Low Density)
pins: 1 V3 (in) "Voltage Input 3. Select from 2.5V, 1.8V, 1.5V, 1.2V or ADJ. See the Applications Information section for details. Tie to V1 if unused.", 2 V1 (in) "Voltage Input 1. Select from 5V or 3.3V. See the Applications Information section for details. The greater of V1 or V2 is also VCC for the device. Bypass this input to ground with a 0.1uF (or greater) capacitor.", 3 CRT (in) "Reset Timeout Capacitor. Attach an external capacitor (CRT) to GND to set a reset timeout of 2ms/nF. A 47nF capacitor generates a 94ms reset delay time. Leaving CRT unconnected generates a minimum timeout period of (See Datasheet)", 4 ~{RST} (out) "Reset Output. Logic output with weak 6uA pull-up to V2. Pulls low when any voltage input is below the reset threshold and held low for the confi gured reset delay time after all voltage inputs are above threshold. When the (See Datasheet)", 5 ~{WDO} (out) "Watchdog Output. Logic output with weak 6uA pullup to V2. May be pulled greater than V2 using external pull-up. For V2 confi gured to monitor 2.5V or below, connect an external pull-up resistor to the interface logic supply (See Datasheet)", 6 WDI (in) "Watchdog Input: A three-state input that controls the operation of the watchdog timer. Leaving the WDI pin unconnected disables the watchdog timer while tying it low or high enables it. While R\S\T\ is high, a transition (See Datasheet)", 7 CWT (in) "Watchdog Timeout Capacitor. Attach a capacitor (CWT) between CWT and GND to set a watchdog timeout period of 20ms/nF. A 47nF capacitor generates a 940ms watchdog timeout period. Leaving CWT unconnected generates a minimum (See Datasheet)", 8 GND (power) "Device Ground.", 9 VPG (in) "Threshold Select Input. Connect to an external 1% resistive divider between VREF and GND to select one of sixteen combinations of voltage thresholds (see Table 1). Do not add capacitance to the VPG input.", 10 VREF (out) "Buffered Reference Voltage Output. A 1.210V nominal reference used for the mode selection voltage (VPG) and for the offset of negative adjustable applications. The buffered reference can source and sink up to 1mA. The (See Datasheet)", 11 V4 (in) "Voltage Input 4. Select from 1.8V, 1.5V, 1.2V, ADJ or -ADJ. See the Applications Information section for details. Tie to V1 if unused and confi gured for positive voltage.", 12 V2 (in) "Voltage Input 2. Select from 3.3V, 2.5V, 1.8V, 1.5V or 1.2V. See the Applications Information section for details. The greater of V1, V2 is also VCC for the device. Bypass this input to ground with a 0.1uF (or greater) (See Datasheet)"

## LTC2938HDE#PBF
designator U?
Configurable 4-Supply Monitor with Watchdog Timer, 12-pin SON (DE-UE-12), -40 to 125 degC, Pb-Free; Manufacturer: Linear Technology; PartNumber: LTC2938HDE#PBF; Number of Supplies(#): 4; PackageVersion: Rev. D, 06/2010; PackageReference: DE-UE-12; PackageDescription: 12-Pin Plastic DFN, Body 4 x 3 mm, Pitch 0.5 mm; Supplier 1: Digi-Key; Supplier Part Number 1: LTC2938HDE#PBF-ND; RoHS: TRUE; Mounting Technology: Surface Mount; Code_JEDEC: MO-229; ComponentLink1Description: Manufacturer URL; ComponentLink1URL: http://www.linear.com/; ComponentLink2Description: Datasheet; ComponentLink2URL: http://cds.linear.com/docs/en/datasheet/293839f.pdf; ComponentLink3Description: Package Specification; ComponentLink3URL: http://cds.linear.com/docs/en/packaging/DFN_12_05-08-1695.pdf
footprint LT-DE-UE-12_V (SON, 12-Leads, Body 4x3mm, Pitch 0.5mm, Thermal Pad 3.3x1.7mm)
pins: 1 V3 (in) "Voltage Input 3. Select from 2.5V, 1.8V, 1.5V, 1.2V or ADJ. See the Applications Information section for details. Tie to V1 if unused.", 2 V1 (in) "Voltage Input 1. Select from 5V or 3.3V. See the Applications Information section for details. The greater of V1 or V2 is also VCC for the device. Bypass this input to ground with a 0.1uF (or greater) capacitor.", 3 CRT (in) "Reset Timeout Capacitor. Attach an external capacitor (CRT) to GND to set a reset timeout of 2ms/nF. A 47nF capacitor generates a 94ms reset delay time. Leaving CRT unconnected generates a minimum timeout period of (See Datasheet)", 4 ~{RST} (out) "Reset Output. Logic output with weak 6uA pull-up to V2. Pulls low when any voltage input is below the reset threshold and held low for the confi gured reset delay time after all voltage inputs are above threshold. When the (See Datasheet)", 5 ~{WDO} (out) "Watchdog Output. Logic output with weak 6uA pullup to V2. May be pulled greater than V2 using external pull-up. For V2 confi gured to monitor 2.5V or below, connect an external pull-up resistor to the interface logic supply (See Datasheet)", 6 WDI (in) "Watchdog Input: A three-state input that controls the operation of the watchdog timer. Leaving the WDI pin unconnected disables the watchdog timer while tying it low or high enables it. While R\S\T\ is high, a transition (See Datasheet)", 7 CWT (in) "Watchdog Timeout Capacitor. Attach a capacitor (CWT) between CWT and GND to set a watchdog timeout period of 20ms/nF. A 47nF capacitor generates a 940ms watchdog timeout period. Leaving CWT unconnected generates a minimum (See Datasheet)", 8 GND (power) "Device Ground.", 9 VPG (in) "Threshold Select Input. Connect to an external 1% resistive divider between VREF and GND to select one of sixteen combinations of voltage thresholds (see Table 1). Do not add capacitance to the VPG input.", 10 VREF (out) "Buffered Reference Voltage Output. A 1.210V nominal reference used for the mode selection voltage (VPG) and for the offset of negative adjustable applications. The buffered reference can source and sink up to 1mA. The (See Datasheet)", 11 V4 (in) "Voltage Input 4. Select from 1.8V, 1.5V, 1.2V, ADJ or -ADJ. See the Applications Information section for details. Tie to V1 if unused and confi gured for positive voltage.", 12 V2 (in) "Voltage Input 2. Select from 3.3V, 2.5V, 1.8V, 1.5V or 1.2V. See the Applications Information section for details. The greater of V1, V2 is also VCC for the device. Bypass this input to ground with a 0.1uF (or greater) (See Datasheet)", 13 EP (power) "The Exposed Pad may be left open or connected to device ground."